# EAGLE library part CYPD3175-24LQXQ (library CYPD3175-24LQXQ)
CYPRESS SEMICONDUCTOR - CYPD3175-24LQXQ - USB TYPE-C PD CONTROLLER, QFN-24 Source: Datasheet <https://www.cypress.com/file/363381/download>
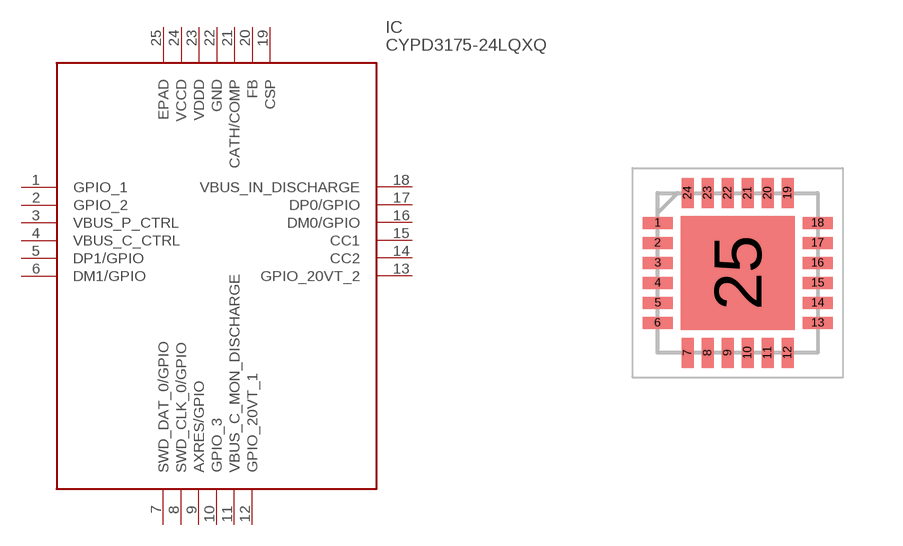
[diagram p0: symbol with the pads of QFN50P400X400X60-25N; footprint QFN50P400X400X60-25N]

Designator prefix IC

## CYPD3175-24LQXQ (Description: CYPRESS SEMICONDUCTOR - CYPD3175-24LQXQ - USB TYPE-C PD CONTROLLER, QFN-24; Height: 0.6mm; Manufacturer_Name: Infineon; Manufacturer_Part_Number: CYPD3175-24LQXQ; Mouser_Part_Number: 727-CYPD3175-24LQXQ; Mouser_Price-Stock: https://www.mouser.co.uk/ProductDetail/Infineon-Technologies/CYPD3175-24LQXQ?qs=1mbolxNpo8fiO8YziS703A%3D%3D)  [QFN50P400X400X60-25N]
1  GPIO_1
2  GPIO_2
3  VBUS_P_CTRL
4  VBUS_C_CTRL
5  DP1/GPIO
6  DM1/GPIO
7  SWD_DAT_0/GPIO
8  SWD_CLK_0/GPIO
9  AXRES/GPIO
10  GPIO_3
11  VBUS_C_MON_DISCHARGE
12  GPIO_20VT_1
13  GPIO_20VT_2
14  CC2
15  CC1
16  DM0/GPIO
17  DP0/GPIO
18  VBUS_IN_DISCHARGE
19  CSP
20  FB
21  CATH/COMP
22  GND
23  VDDD
24  VCCD
25  EPAD

## Footprint QFN50P400X400X60-25N (pad centres in mm)
24-pin QFN Package Outline
smd 0.75 x 0.3: 1 -2,1.25; 2 -2,0.75; 3 -2,0.25; 4 -2,-0.25; 5 -2,-0.75; 6 -2,-1.25; 13 2,-1.25; 14 2,-0.75; 15 2,-0.25; 16 2,0.25; 17 2,0.75; 18 2,1.25
smd 0.3 x 0.75: 7 -1.25,-2; 8 -0.75,-2; 9 -0.25,-2; 10 0.25,-2; 11 0.75,-2; 12 1.25,-2; 19 1.25,2; 20 0.75,2; 21 0.25,2; 22 -0.25,2; 23 -0.75,2; 24 -1.25,2
smd 2.85 x 2.85: 25 0,0